# Altium schematic symbol library IC.ADC,DAC.SchLib: 3 symbols
Pins are listed as number, name and electrical type; pins without a type are passive.

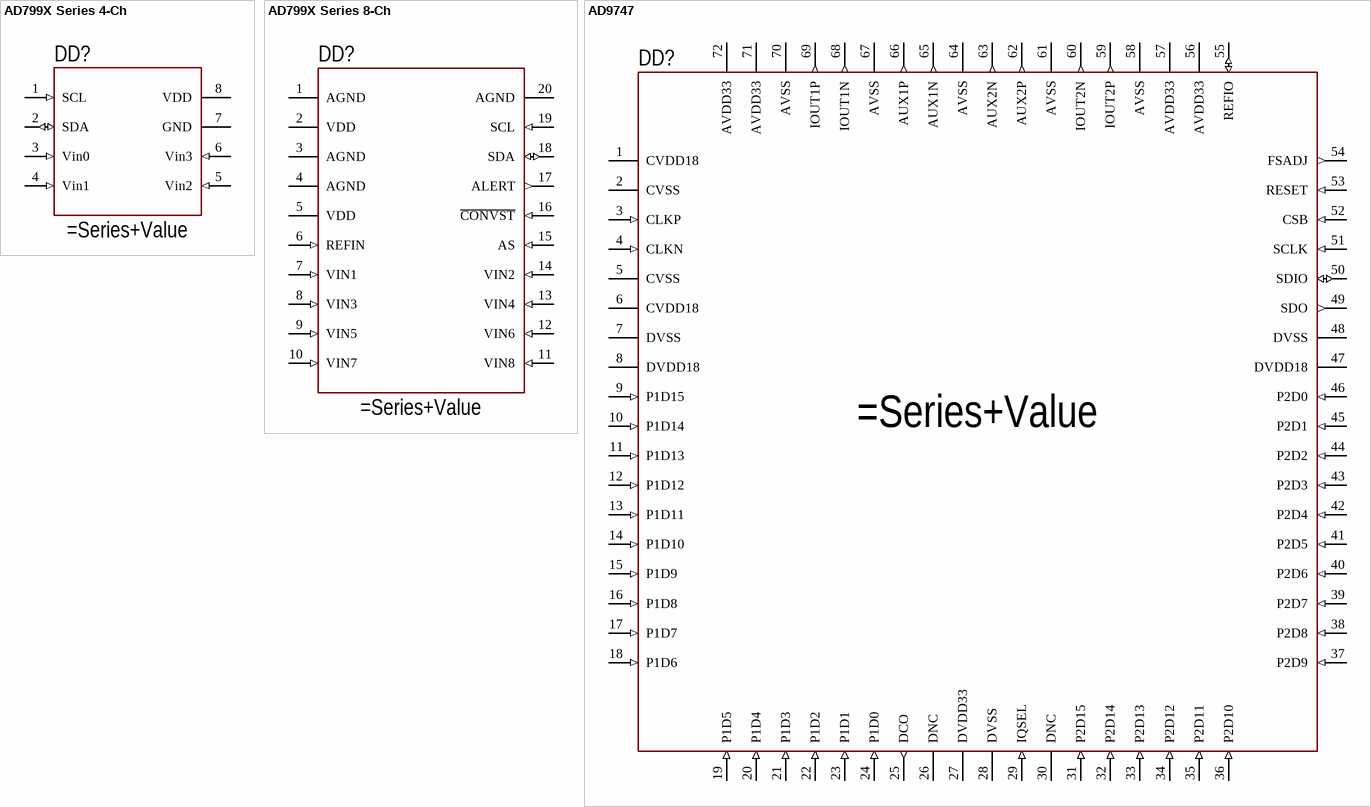
[diagram p0: symbols AD799X Series 4-Ch to AD9747]

## AD799X Series 4-Ch
designator DD?
4-Channel, 12-/10-/8-Bit ADC with / I2C-Compatible Interface in 8-Lead SOT-23; Package: *; Part: *
pins: 1 SCL (in), 2 SDA (io), 3 Vin0 (in), 4 Vin1 (in), 5 Vin2 (in), 6 Vin3 (in), 7 GND, 8 VDD

## AD799X Series 8-Ch
designator DD?
8-Ch 12-/10-Bit ADC with I2C-Compatible Interface in 20-Lead TSSOP
pins: 1 AGND, 2 VDD, 3 AGND, 4 AGND, 5 VDD, 6 REFIN (in), 7 VIN1 (in), 8 VIN3 (in), 9 VIN5 (in), 10 VIN7 (in), 11 VIN8 (in), 12 VIN6 (in), 13 VIN4 (in), 14 VIN2 (in), 15 AS (in), 16 ~{CONVST} (in), 17 ALERT (out), 18 SDA (io), 19 SCL (in), 20 AGND

## AD9747
designator DD?
Dual 16-Bit, 250 MSPS DAC
pins: 1 CVDD18, 2 CVSS, 3 CLKP (in), 4 CLKN (in), 5 CVSS, 6 CVDD18, 7 DVSS, 8 DVDD18, 9 P1D15 (in), 10 P1D14 (in), 11 P1D13 (in), 12 P1D12 (in), 13 P1D11 (in), 14 P1D10 (in), 15 P1D9 (in), 16 P1D8 (in), 17 P1D7 (in), 18 P1D6 (in), 19 P1D5 (in), 20 P1D4 (in), 21 P1D3 (in), 22 P1D2 (in), 23 P1D1 (in), 24 P1D0 (in), 25 DCO (out), 26 DNC, 27 DVDD33, 28 DVSS, 29 IQSEL (in), 30 DNC, 31 P2D15 (in), 32 P2D14 (in), 33 P2D13 (in), 34 P2D12 (in), 35 P2D11 (in), 36 P2D10 (in), 37 P2D9 (in), 38 P2D8 (in), 39 P2D7 (in), 40 P2D6 (in), 41 P2D5 (in), 42 P2D4 (in), 43 P2D3 (in), 44 P2D2 (in), 45 P2D1 (in), 46 P2D0 (in), 47 DVDD18, 48 DVSS, 49 SDO (out), 50 SDIO (io), 51 SCLK (in), 52 CSB (in), 53 RESET (in), 54 FSADJ (out), 55 REFIO (io), 56 AVDD33, 57 AVDD33, 58 AVSS, 59 IOUT2P (out), 60 IOUT2N (out), 61 AVSS, 62 AUX2P (out), 63 AUX2N (out), 64 AVSS, 65 AUX1N (out), 66 AUX1P (out), 67 AVSS, 68 IOUT1N (out), 69 IOUT1P (out), 70 AVSS, 71 AVDD33, 72 AVDD33